# Altium schematic symbol library RES,100k,1%,0.063W,0402.Schlib: 1 symbol
Pins are listed as number, name and electrical type; pins without a type are passive.

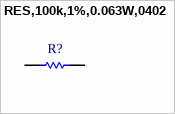
[diagram p0: symbol RES,100k,1%,0.063W,0402]

## RES,100k,1%,0.063W,0402
designator R?
pins: 1, 2